# Altium integrated library ADV7123.IntLib: 1 symbol
Pins are listed as number, name and electrical type; pins without a type are passive.

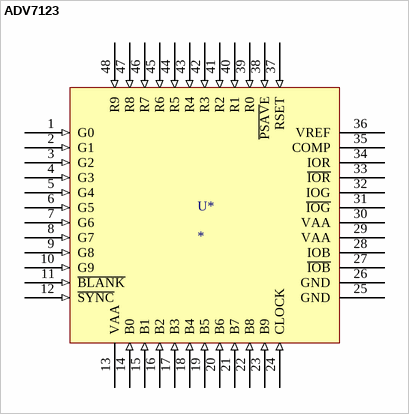
[diagram p0: symbol ADV7123]

## ADV7123
designator U*
Triple 10-Bit High Speed Video DAC
footprint 48A
pins: 1 G0 (in), 2 G1 (in), 3 G2 (in), 4 G3 (in), 5 G4 (in), 6 G5 (in), 7 G6 (in), 8 G7 (in), 9 G8 (in), 10 G9 (in), 11 ~{BLANK} (in), 12 ~{SYNC} (in), 13 VAA, 14 B0 (in), 15 B1 (in), 16 B2 (in), 17 B3 (in), 18 B4 (in), 19 B5 (in), 20 B6 (in), 21 B7 (in), 22 B8 (in), 23 B9 (in), 24 CLOCK (in), 25 GND, 26 GND, 27 ~{IOB}, 28 IOB, 29 VAA, 30 VAA, 31 ~{IOG}, 32 IOG, 33 ~{IOR}, 34 IOR, 35 COMP, 36 VREF, 37 RSET (in), 38 ~{PSAV}E (in), 39 R0 (in), 40 R1 (in), 41 R2 (in), 42 R3 (in), 43 R4 (in), 44 R5 (in), 45 R6 (in), 46 R7 (in), 47 R8 (in), 48 R9 (in)